# EAGLE library part CLOCKGEN (library cartreader)
PIN HEADER
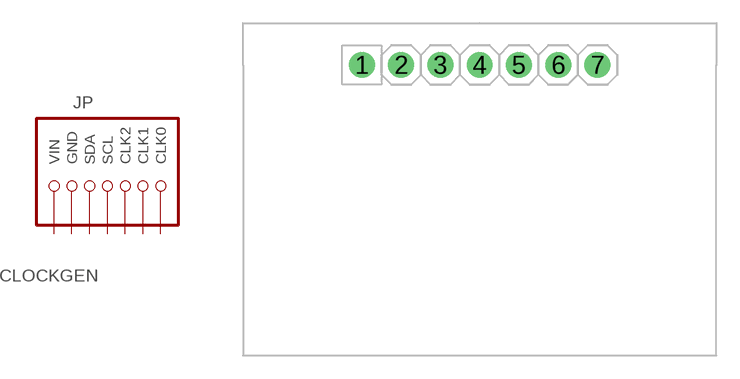
[diagram p3: symbol with the pads of CLOCKGEN; footprint CLOCKGEN]

Designator prefix JP

## CLOCKGEN_2.54  [CLOCKGEN]
1  VIN  pwr
2  GND  pwr
3  SDA  in
4  SCL  in
5  CLK2  out
6  CLK1  out
7  CLK0  out

## Footprint CLOCKGEN (pad centres in mm)
PIN HEADER - 2.54
drill 1.016 pad 1.676: 1 -7.62,0; 2 -5.08,0; 3 -2.54,0; 4 0,0; 5 2.54,0; 6 5.08,0; 7 7.62,0